# Altium footprint library Other.PcbLib: 3 footprints
Each footprint in its own frame and in the unit in brackets; x right, y up, seen from the top. Pads: shape width x height; smd on the part's side, far side on the other; paste and mask are expansions set on the pad; w line width, h text height; cw(c..) or ccw(c..) is an arc to the next point about the centre after c.
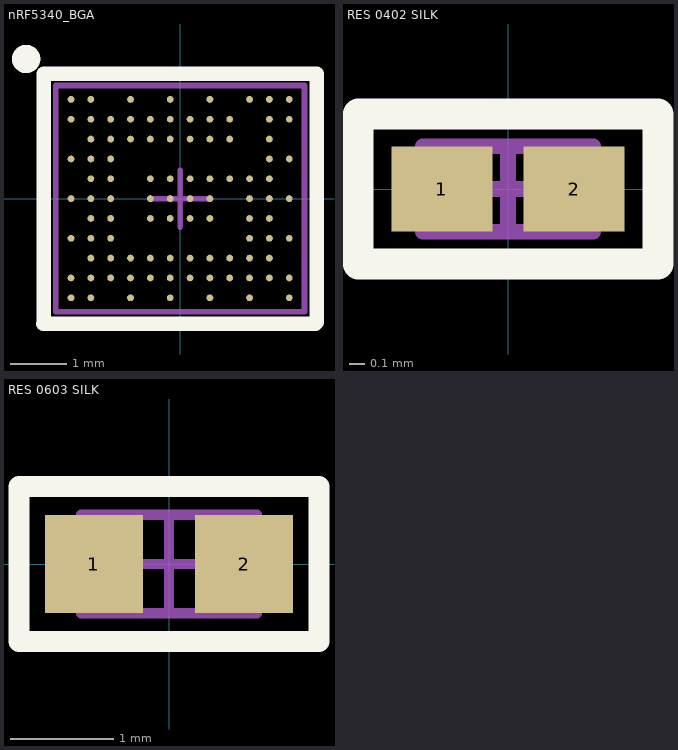
[diagram p0: the footprints below, top view; thin cyan lines are the x and y axes]

## nRF5340_BGA [mm] "94 lead BGA for nRF5340"
height 0.45
pads (95):
  round 0.12 smd: A1(-1.925,1.75) A2(-1.575,1.75) A4(-0.875,1.75) A6(-0.175,1.75) A8(0.525,1.75) A10(1.225,1.75) A11(1.575,1.75) A12(1.925,1.75) B1(-1.925,1.4) B2(-1.575,1.4) B3(-1.225,1.4) B4(-0.875,1.4) B5(-0.525,1.4) B6(-0.175,1.4) B7(0.175,1.4) B8(0.525,1.4) B9(0.875,1.4) B11(1.575,1.4) B12(1.925,1.4) C2(-1.575,1.05) C3(-1.225,1.05) C4(-0.875,1.05) C5(-0.525,1.05) C6(-0.175,1.05) C7(0.175,1.05) C8(0.525,1.05) C9(0.875,1.05) C11(1.575,1.05) D1(-1.925,0.7) D2(-1.575,0.7) D3(-1.225,0.7) D11(1.575,0.7) D12(1.925,0.7) E2(-1.575,0.35) E3(-1.225,0.35) E5(-0.525,0.35) E6(-0.175,0.35) E7(0.175,0.35) E8(0.525,0.35) E9(0.875,0.35) E10(1.225,0.35) E11(1.575,0.35) F1(-1.925,0) F2(-1.575,0) F3(-1.225,0) F5(-0.525,0) F6(-0.175,0) F7(0.175,0) F8(0.525,0) F10(1.225,0) F11(1.575,0) F12(1.925,0) G2(-1.575,-0.35) G3(-1.225,-0.35) G5(-0.525,-0.35) G6(-0.175,-0.35) G7(0.175,-0.35) G8(0.525,-0.35) G10(1.225,-0.35) G11(1.575,-0.35) H1(-1.925,-0.7) H2(-1.575,-0.7) H3(-1.225,-0.7) H10(1.225,-0.7) H11(1.575,-0.7) H12(1.925,-0.7) J2(-1.575,-1.05) J3(-1.225,-1.05) J4(-0.875,-1.05) J5(-0.525,-1.05) J6(-0.175,-1.05) J7(0.175,-1.05) J8(0.525,-1.05) J9(0.875,-1.05) J10(1.225,-1.05) J11(1.575,-1.05) K1(-1.925,-1.4) K2(-1.575,-1.4) K3(-1.225,-1.4) K4(-0.875,-1.4) K5(-0.525,-1.4) K6(-0.175,-1.4) K7(0.175,-1.4) K8(0.525,-1.4) K9(0.875,-1.4) K10(1.225,-1.4) K11(1.575,-1.4) K12(1.925,-1.4) L1(-1.925,-1.75) L2(-1.575,-1.75) L4(-0.875,-1.75) L6(-0.175,-1.75) L8(0.525,-1.75) L10(1.225,-1.75) L12(1.925,-1.75)
Top Overlay:
  circle w0.25: c-2.718,2.464 r0.125
  lines w0.254: -2.413,-2.21 -2.405,-2.202 -2.405,2.205 2.413,2.205 2.413,-2.184 2.388,-2.21 -2.413,-2.21
Mechanical 13:
  lines w0.1: -2.195,-1.995 -2.195,1.995 2.195,1.995 2.195,-1.995 -2.195,-1.995
Mechanical 15:
  lines w0.05: -2.45,-2.25 -2.45,2.25 2.45,2.25 2.45,-2.25 -2.45,-2.25
  lines w0.1: -0.5,0 0.5,0 ; 0,-0.5 0,0.5
3D body: height 0.45, standoff 0.13, extent -2.195,-1.995 2.195,1.995

## RES 0402 SILK [mm]
height 0.4
pads (2):
  rect 0.65x0.55 smd: 1(-0.425,0) 2(0.425,0)
Top Overlay:
  lines w0.2: -0.965,-0.483 0.965,-0.483 0.965,0.483 -0.965,0.483 -0.965,-0.483
Mechanical 13:
  lines w0.1: -0.55,-0.275 0.55,-0.275 0.55,0.275 -0.55,0.275 -0.55,-0.275
Mechanical 15:
  lines w0.05: -0.9,-0.45 0.9,-0.45 0.9,0.45 -0.9,0.45 -0.9,-0.45
  lines w0.1: -0.275,0 0.275,0 ; 0,-0.275 0,0.275
3D body: height 0.4, standoff 0, extent 0.3,-0.275 0.55,0.275
3D body: height 0.4, standoff 0, extent -0.55,-0.275 -0.3,0.275
3D body: height 0.4, standoff 0, extent -0.3,-0.275 0.3,0.275

## RES 0603 SILK [mm]
height 0.55
pads (2):
  rect 0.95x0.95 smd: 1(-0.725,0) 2(0.725,0)
Top Overlay:
  lines w0.2: -1.45,-0.75 -1.45,0.75 1.45,0.75 1.45,-0.75 -1.45,-0.75
Mechanical 13:
  lines w0.1: -0.85,-0.475 -0.85,0.475 0.85,0.475 0.85,-0.475 -0.85,-0.475
Mechanical 15:
  lines w0.05: -1.45,-0.75 -1.45,0.75 1.45,0.75 1.45,-0.75 -1.45,-0.75
  lines w0.1: -0.475,0 0.475,0 ; 0,-0.475 0,0.475
3D body: height 0.55, standoff 0, extent -0.55,-0.475 0.55,0.475
3D body: height 0.55, standoff 0, extent -0.85,-0.475 -0.55,0.475
3D body: height 0.55, standoff 0, extent 0.55,-0.475 0.85,0.475